# Altium schematic symbol library 2511020213301.SchLib: 1 symbol
Pins are listed as number, name and electrical type; pins without a type are passive.

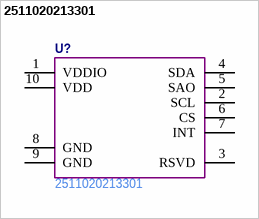
[diagram p0: symbol 2511020213301]

## 2511020213301
designator U?  Manufacturer Part Number: 2511020213301  (hidden comment: *)
pins: 1 VDDIO, 2 SCL, 3 RSVD, 4 SDA, 5 SAO, 6 CS, 7 INT, 8 GND, 9 GND, 10 VDD